# Altium schematic symbol library SKC6812RV.SchLib: 1 symbol
Pins are listed as number, name and electrical type; pins without a type are passive.

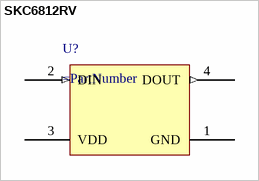
[diagram p0: symbol SKC6812RV]

## SKC6812RV
designator U?
pins: 1 GND, 2 DIN (in), 3 VDD, 4 DOUT (out)